# Altium schematic symbol library CAP 470pF 50V - C0G_NPO.Schlib: 1 symbol
Pins are listed as number, name and electrical type; pins without a type are passive.

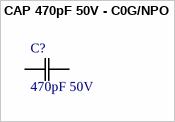
[diagram p0: symbol CAP 470pF 50V - C0G/NPO]

## CAP 470pF 50V - C0G/NPO
designator C?, comment 470pF 50V
CAP CER 470PF 50V C0G/NPO 0805
pins: 1 C1, 2 C2